# Altium footprint library 00SMD-R-C-L-Q.PCBLIB: 64 footprints (part 4 of 4)
Each footprint in its own frame and in the unit in brackets; x right, y up, seen from the top. Pads: shape width x height; smd on the part's side, far side on the other; paste and mask are expansions set on the pad; w line width, h text height; cw(c..) or ccw(c..) is an arc to the next point about the centre after c.
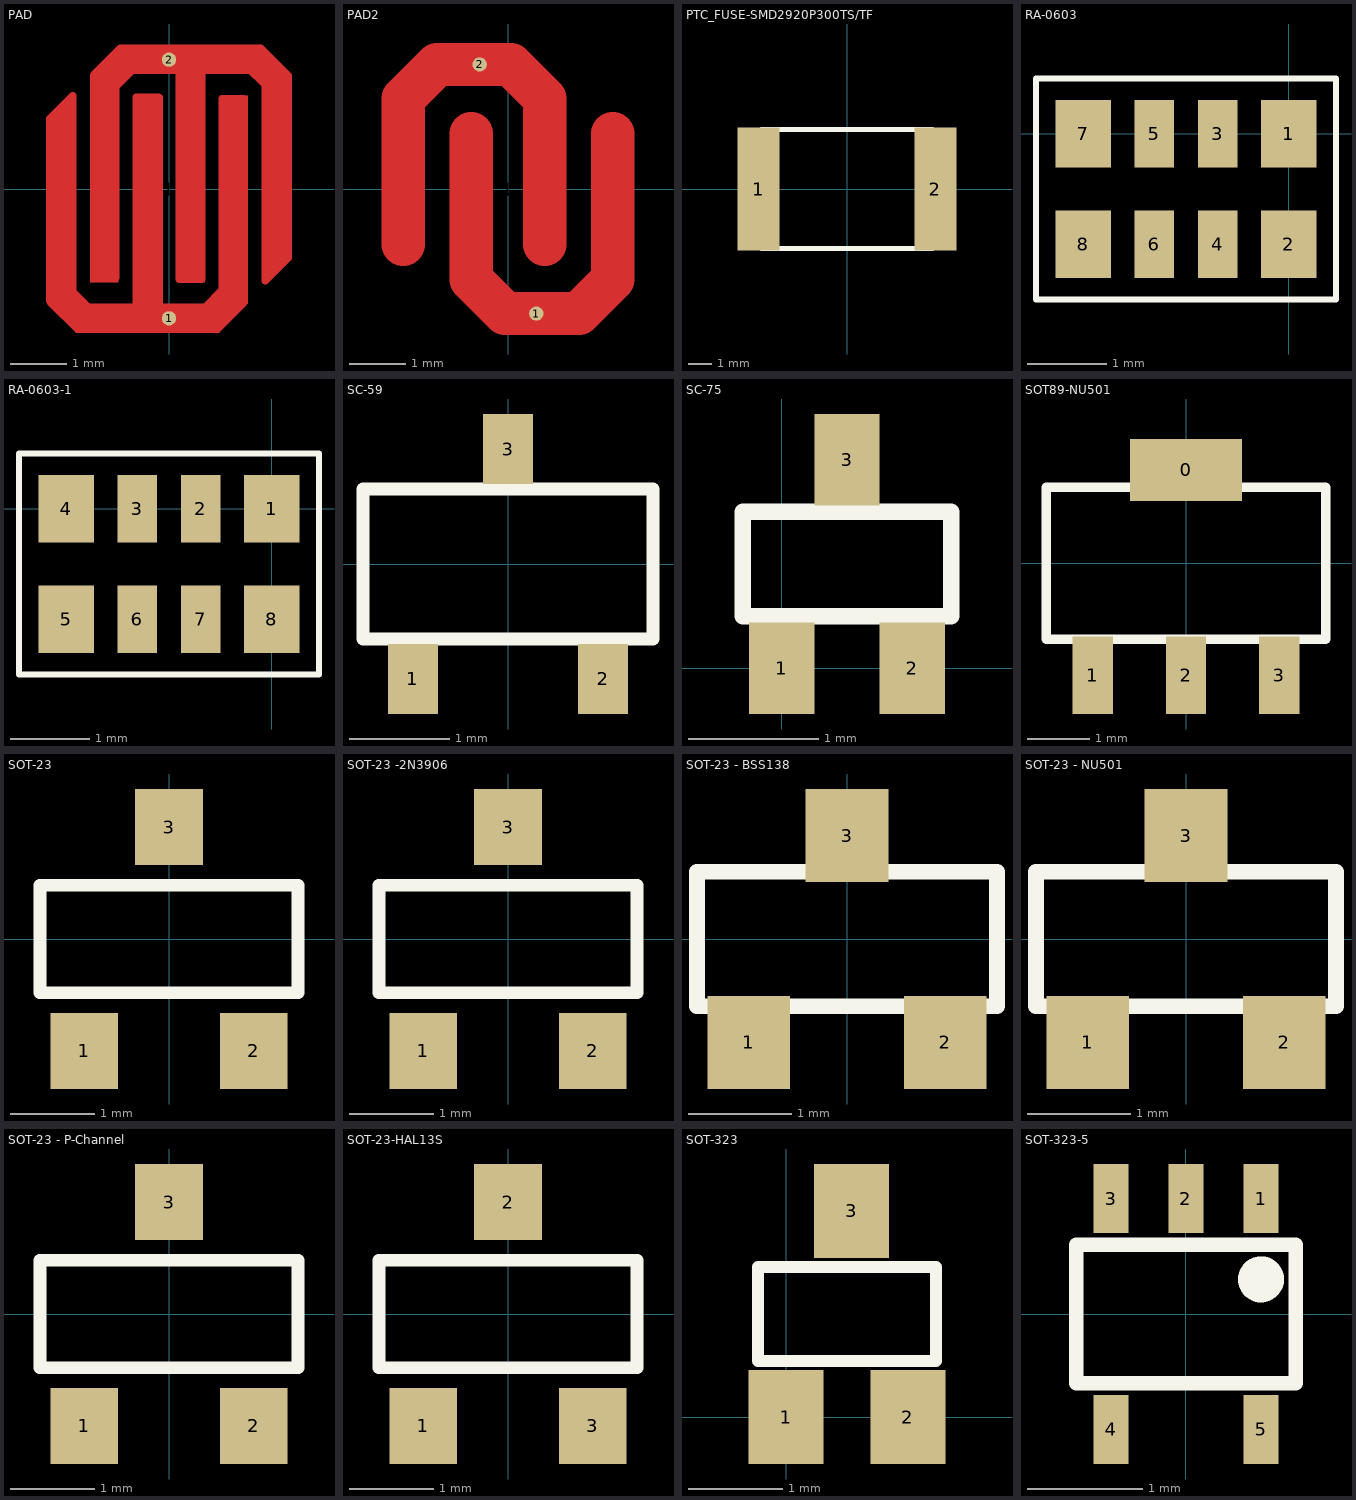
[diagram p3: the footprints below, top view; thin cyan lines are the x and y axes]

## PAD [mil]
pads (3):
  round 10 smd: 1(0,-90) 2(0,90)
  rect 181.1x208.66 on Top Solder: 1(0,0)
TopLayer:
  rectangle: -25,-100 -4,65
  rectangle: 35,-80 55,65
  region: 54,-81 38.93,-65.93 19.93,-84.93 35,-100
  rectangle: -65,-100 -25,-80
  region: -65,-100 -49.97,-84.97 -69.47,-65.47 -84.5,-80.5
  rectangle: -55,-65 -35,80
  rectangle: 7,-65 25,100
  rectangle: -35,80 65,100
  region: -39,66 -21,84 -34.43,97.44 -52.43,79.43
  region: 69.53,66.53 82.97,79.97 64.47,98.47 51.03,85.03
  rectangle: 67,-64 70,-60
  rectangle: -5,-100 35,-80
  rectangle: -83,-78 -67,49
  rectangle: 65,-48 83,80
  lines w5: -83,-78 -83,49 -67,65 -67,-71 -66,-72 -56,-82 -55,-82 -23,-82 -23,64 -7,64 -7,-82 25,-82 37,-70 37,63 52,63 52,-79 34,-97 -64,-97 -83,-78 ; -52,-62 -52,80 -34,98 64,98 83,79 83,-48 67,-64 67,72 66,73 56,83 55,83 23,83 23,-63 7,-63 7,83 -25,83 -37,71 -37,-62 -52,-62
  lines w10: -78,47 -71,54 ; 70,-54 77,-47

## PAD2 [mm]
pads (3):
  rect 4.6x5.3 on Top Solder: 1(0,0)
  round 0.254 smd: 1(0.5,-2.2) 2(-0.5,2.2)
TopLayer:
  lines w0.762: -1.85,-0.975 -1.85,1.6 -1.25,2.2 -1.05,2.2 -0.5,2.2 0.05,2.2 0.65,1.6 0.65,1.4 0.65,-0.975 ; -0.65,0.975 -0.65,-1.4 -0.65,-1.6 -0.05,-2.2 0.5,-2.2 1.05,-2.2 1.25,-2.2 1.85,-1.6 1.85,0.975

## PTC_FUSE-SMD2920P300TS/TF [mm] "PTC_FUSE-SMD2920P300TS/TF"
pads (2):
  rect 1.8x5.3 smd: 1(-3.8,0) 2(3.8,0)
TopOverlay:
  lines w0.203: -3.678,-2.56 3.678,-2.56 3.678,2.56 -3.678,2.56 -3.678,-2.56

## RA-0603 [mm]
pads (8):
  rect 0.7x0.85 smd: 1(0,0) 2(0,-1.4) 7(-2.6,0) 8(-2.6,-1.4)
  rect 0.5x0.85 smd: 3(-0.9,0) 4(-0.9,-1.4) 5(-1.7,0) 6(-1.7,-1.4)
TopOverlay:
  lines w0.076: -3.2,-2.1 0.6,-2.1 0.6,0.7 -3.2,0.7 -3.2,-2.1

## RA-0603-1 [mm]
pads (8):
  rect 0.7x0.85 smd: 1(0,0) 4(-2.6,0) 5(-2.6,-1.4) 8(0,-1.4)
  rect 0.5x0.85 smd: 2(-0.9,0) 3(-1.7,0) 6(-1.7,-1.4) 7(-0.9,-1.4)
TopOverlay:
  lines w0.076: -3.2,-2.1 -3.2,0.7 0.6,0.7 0.6,-2.1 -3.2,-2.1

## SC-59 [mm] "SC-59"
pads (3):
  rect 0.5x0.7 smd: 1(-0.95,-1.15) 2(0.95,-1.15) 3(0,1.15)
TopOverlay:
  lines w0.127: -1.45,-0.75 1.45,-0.75 1.45,0.75 -1.45,0.75 -1.45,-0.75

## SC-75 [mm] "SC-75"
pads (3):
  rect 0.5x0.7 smd: 1(0,0) 2(1,0) 3(0.5,1.6)
TopOverlay:
  lines w0.127: -0.3,0.4 1.3,0.4 1.3,1.2 -0.3,1.2 -0.3,0.4

## SOT89-NU501 [mm] "SOT89-NU501"
pads (4):
  rect 1.8x1 smd: 0(0,1.5)
  rect 0.65x1.25 smd: 1(-1.5,-1.8) 2(0,-1.8) 3(1.5,-1.8)
TopOverlay:
  lines w0.152: -2.25,-1.225 -2.25,1.225 2.25,1.225 2.25,-1.225 -2.25,-1.225

## SOT-23 [mm] "SOT-23"
pads (3):
  rect 0.8x0.9 smd: 1(-1,-1.321) 2(1,-1.321) 3(0,1.321)
TopOverlay:
  lines w0.152: -1.524,-0.635 1.524,-0.635 1.524,0.635 -1.524,0.635 -1.524,-0.635

## SOT-23 -2N3906 [mm] "SOT-23 -2N3906"
pads (3):
  rect 0.8x0.9 smd: 1(-1,-1.321) 2(1,-1.321) 3(0,1.321)
TopOverlay:
  lines w0.152: -1.524,-0.635 -1.524,0.635 1.524,0.635 1.524,-0.635 -1.524,-0.635

## SOT-23 - BSS138 [mm] "SOT-23 - BSS138"
pads (3):
  rect 0.8x0.9 smd: 1(-0.95,-1) 2(0.95,-1) 3(0,1)
TopOverlay:
  lines w0.152: -1.45,-0.65 -1.45,0.65 1.45,0.65 1.45,-0.65 -1.45,-0.65

## SOT-23 - NU501 [mm] "SOT-23 - NU501"
pads (3):
  rect 0.8x0.9 smd: 1(-0.95,-1) 2(0.95,-1) 3(0,1)
TopOverlay:
  lines w0.152: -1.45,-0.65 1.45,-0.65 1.45,0.65 -1.45,0.65 -1.45,-0.65

## SOT-23 - P-Channel [mm] "SOT-23-P-Channel"
pads (3):
  rect 0.8x0.9 smd: 1(-1,-1.321) 2(1,-1.321) 3(0,1.321)
TopOverlay:
  lines w0.152: -1.524,-0.635 1.524,-0.635 1.524,0.635 -1.524,0.635 -1.524,-0.635

## SOT-23-HAL13S [mm] "SOT-23-HAL13S"
pads (3):
  rect 0.8x0.9 smd: 1(-1,-1.321) 2(0,1.321) 3(1,-1.321)
TopOverlay:
  lines w0.152: -1.524,-0.635 -1.524,0.635 1.524,0.635 1.524,-0.635 -1.524,-0.635

## SOT-323 [mm]
pads (3):
  rect 0.8x1 smd: 1(0,0) 2(1.3,0) 3(0.7,2.2)
TopOverlay:
  lines w0.127: -0.301,0.6 1.599,0.6 1.599,1.6 -0.301,1.6 -0.301,0.6

## SOT-323-5 [mm] "SOT-323-5"
pads (5):
  rect 0.3x0.6 smd: 1(0.65,1) 2(0,1) 3(-0.65,1) 4(-0.65,-1) 5(0.65,-1)
TopOverlay:
  circle w0.2: c0.65,0.3 r0.1
  lines w0.127: -0.95,-0.6 -0.95,0.6 0.95,0.6 0.95,-0.6 -0.95,-0.6